# Altium footprint library MSOP8(TERM).PcbLib: 1 footprints
Each footprint in its own frame and in the unit in brackets; x right, y up, seen from the top. Pads: shape width x height; smd on the part's side, far side on the other; paste and mask are expansions set on the pad; w line width, h text height; cw(c..) or ccw(c..) is an arc to the next point about the centre after c.
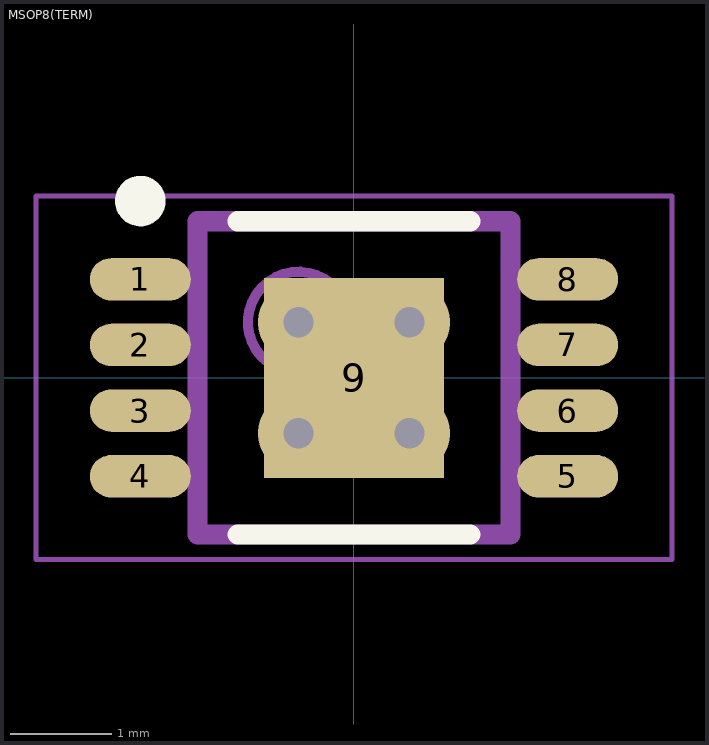
[diagram p0: the footprint, top view; thin cyan lines are the x and y axes]

## MSOP8(TERM) [mm] "LT5400AIMS8E-4#PBF"
height 1.1
pads (9):
  oval 1x0.42 smd: 1(-2.115,0.975) 2(-2.115,0.325) 3(-2.115,-0.325) 4(-2.115,-0.975) 5(2.115,-0.975) 6(2.115,-0.325) 7(2.115,0.325) 8(2.115,0.975)
  rect 1.78x1.98 smd: 9(0,0)
via 0.55,0.55 diameter 0.8 hole 0.3
via -0.55,0.55 diameter 0.8 hole 0.3
via 0.55,-0.55 diameter 0.8 hole 0.3
via -0.55,-0.55 diameter 0.8 hole 0.3
Top Overlay:
  circle w0.25: c-2.115,1.75 r0.125
  lines w0.2: -1.15,-1.55 1.15,-1.55 ; -1.15,1.55 1.15,1.55
Mechanical 7:
  circle w0.1: c-0.55,0.55 r0.5
  lines w0.2: -1.55,-1.55 -1.55,1.55 1.55,1.55 1.55,-1.55 -1.55,-1.55
Mechanical 15:
  lines w0.05: -3.15,-1.8 -3.15,1.8 3.15,1.8 3.15,-1.8 -3.15,-1.8
  lines w0.1: -0.5,0 0.5,0 ; 0,-0.5 0,0.5
3D body "MSOP8(TERM).step": height 1.1, standoff 0, extent -2.45,-1.55 2.45,1.55